# Altium footprint library resistor.PCBLIB: 427 footprints (part 13 of 27)
Each footprint in its own frame and in the unit in brackets; x right, y up, seen from the top. Pads: shape width x height; smd on the part's side, far side on the other; paste and mask are expansions set on the pad; w line width, h text height; cw(c..) or ccw(c..) is an arc to the next point about the centre after c.
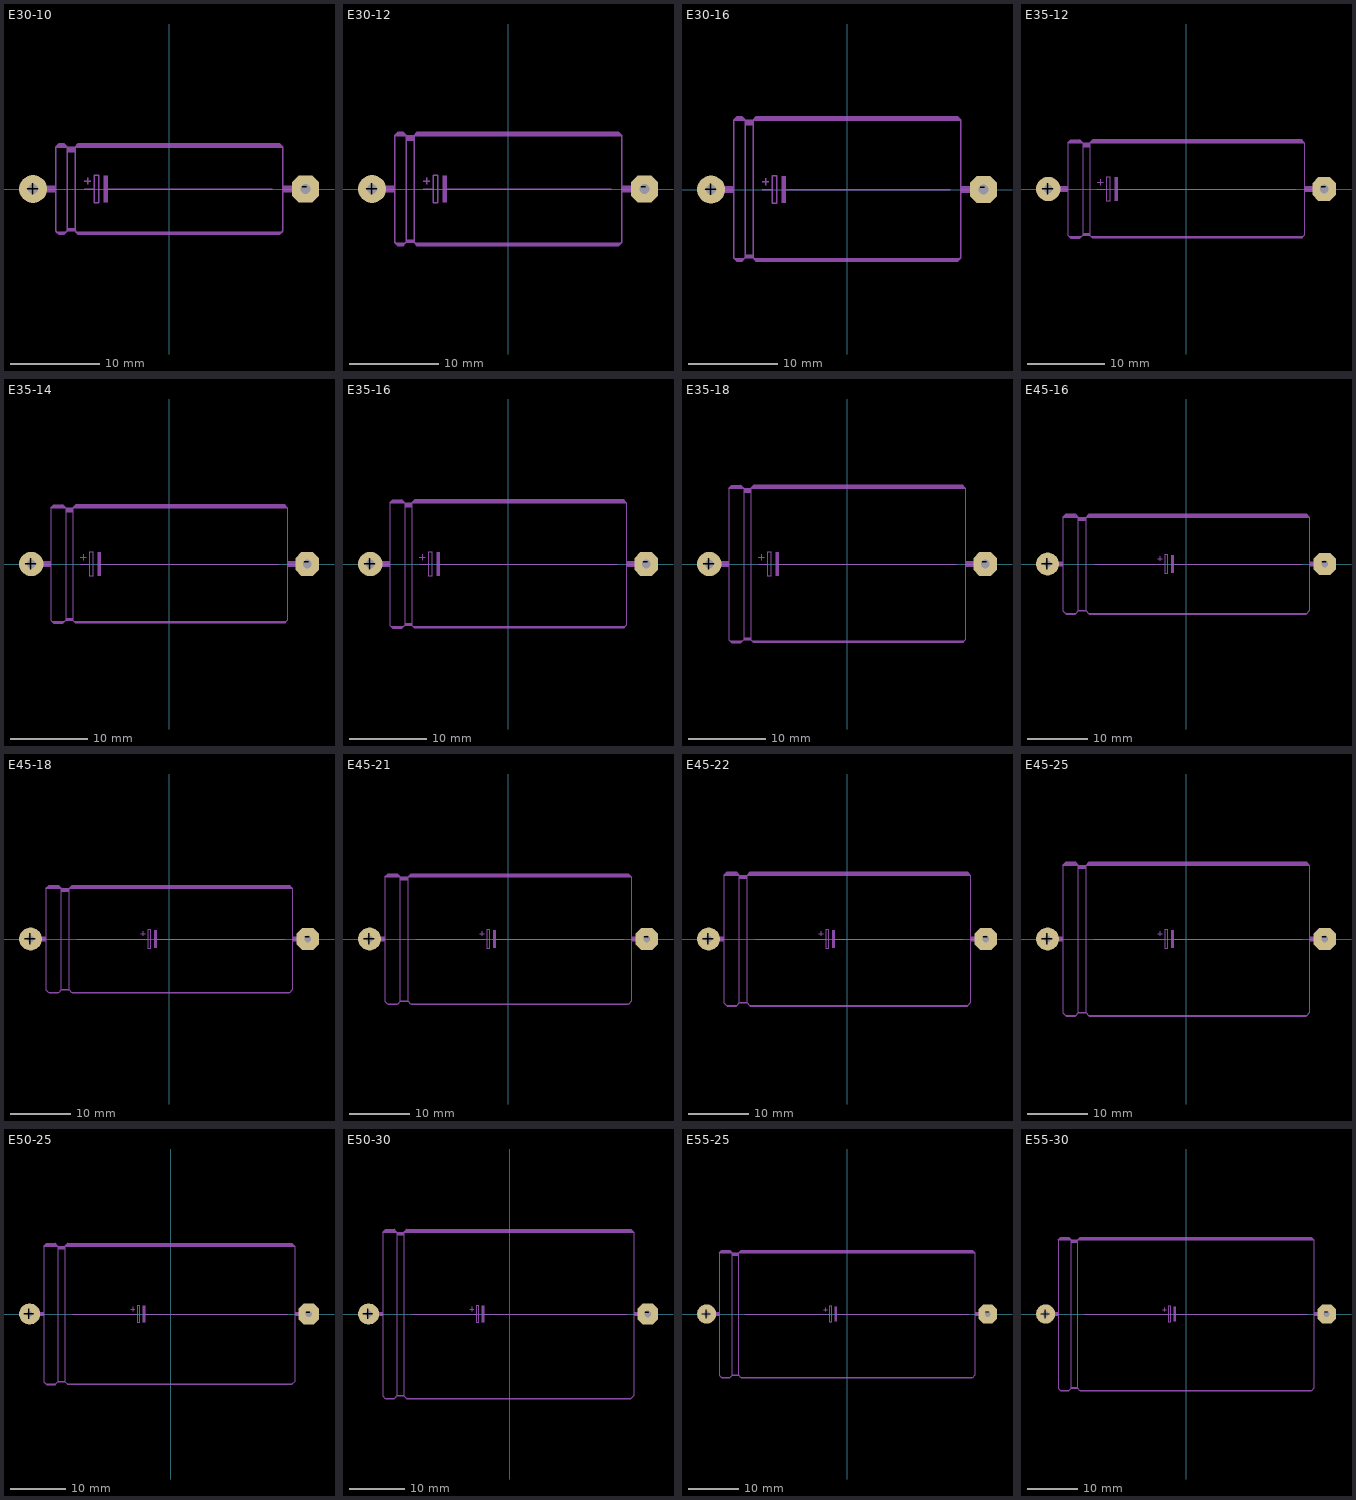
[diagram p12: the footprints below, top view; thin cyan lines are the x and y axes]

## E30-10 [mil]
pads (2):
  round 124 hole 44: +(-600,0)
  oct 120.06x120.06 hole 44: -(600,0)
Mechanical 2:
  rectangle: -290,-60 -270,60
  rectangle: -530,-15 -500,15
  rectangle: 500,-15 530,15
  lines w6: -375,0 -330,0 ; -375,35 -345,35 ; -360,20 -360,50 ; -275,0 455,0 ; -500,185 -500,-185 -495,-190 ; -500,185 -485,200 -465,200 -450,185 ; -500,185 -450,185 ; -495,-190 -455,-190 ; -495,-190 -485,-200 -465,-200 -455,-190 ; -455,-190 -450,-185 ; -450,-185 -415,-185 ; -450,-185 -450,-175 ; -450,-175 -450,165 ; -450,-175 -415,-175 ; -450,165 -450,185 ; -450,165 -415,165 ; -450,185 -415,185 ; -415,-185 -410,-190 ; -415,-185 -415,-175 ; -415,-175 -415,165 ; -415,165 -415,185 ; -415,185 -400,200 485,200 500,185 ; -415,185 500,185 ; -410,-190 -400,-200 485,-200 495,-190 ; -410,-190 495,-190 ; -330,0 -330,60 -310,60 -310,-60 -330,-60 -330,0 ; 495,-190 500,-185 500,185
  lines w12: -490,190 -460,190 ; -485,-195 -465,-195 ; -485,195 -465,195 ; -445,-180 -420,-180 ; -445,170 -420,170 ; -445,180 -420,180 ; -405,190 490,190 ; -400,-195 485,-195 ; -400,195 485,195
Mechanical 18:
  lines w30: -600,0 -530,0 ; 530,0 600,0

## E30-12 [mil]
pads (2):
  round 124 hole 44: +(-600,0)
  oct 120.06x120.06 hole 44: -(600,0)
Mechanical 2:
  rectangle: -290,-60 -270,60
  rectangle: -530,-15 -500,15
  rectangle: 500,-15 530,15
  lines w6: -375,0 -330,0 ; -375,35 -345,35 ; -360,20 -360,50 ; -275,0 455,0 ; -500,235 -500,-235 -495,-240 ; -500,235 -485,250 -465,250 -450,235 ; -500,235 -450,235 ; -495,-240 -455,-240 ; -495,-240 -485,-250 -465,-250 -455,-240 ; -455,-240 -450,-235 ; -450,-235 -415,-235 ; -450,-235 -450,-225 ; -450,-225 -450,215 ; -450,-225 -415,-225 ; -450,215 -450,235 ; -450,215 -415,215 ; -450,235 -415,235 ; -415,-235 -410,-240 ; -415,-235 -415,-225 ; -415,-225 -415,215 ; -415,215 -415,235 ; -415,235 -400,250 485,250 500,235 ; -415,235 500,235 ; -410,-240 -400,-250 485,-250 495,-240 ; -410,-240 495,-240 ; -330,0 -330,60 -310,60 -310,-60 -330,-60 -330,0 ; 495,-240 500,-235 500,235
  lines w12: -490,240 -460,240 ; -485,-245 -465,-245 ; -485,245 -465,245 ; -445,-230 -420,-230 ; -445,220 -420,220 ; -445,230 -420,230 ; -405,240 490,240 ; -400,-245 485,-245 ; -400,245 485,245
Mechanical 18:
  lines w30: -600,0 -530,0 ; 530,0 600,0

## E30-16 [mil]
pads (2):
  round 124 hole 44: +(-600,0)
  oct 120.06x120.06 hole 44: -(600,0)
Mechanical 2:
  rectangle: -290,-60 -270,60
  rectangle: -530,-15 -500,15
  rectangle: 500,-15 530,15
  lines w6: -375,0 -330,0 ; -375,35 -345,35 ; -360,20 -360,50 ; -275,0 455,0 ; -500,305 -500,-300 -495,-305 ; -500,305 -485,320 -465,320 -450,305 ; -500,305 -450,305 ; -495,-305 -455,-305 ; -495,-305 -485,-315 -465,-315 -455,-305 ; -455,-305 -450,-300 ; -450,-300 -415,-300 ; -450,-300 -450,-290 ; -450,-290 -450,285 ; -450,-290 -415,-290 ; -450,285 -450,305 ; -450,285 -415,285 ; -450,305 -415,305 ; -415,-300 -410,-305 ; -415,-300 -415,-290 ; -415,-290 -415,285 ; -415,285 -415,305 ; -415,305 -400,320 485,320 500,305 ; -415,305 500,305 ; -410,-305 -400,-315 485,-315 495,-305 ; -410,-305 495,-305 ; -330,0 -330,60 -310,60 -310,-60 -330,-60 -330,0 ; 495,-305 500,-300 500,305
  lines w12: -490,310 -460,310 ; -485,-310 -465,-310 ; -485,315 -465,315 ; -445,-295 -420,-295 ; -445,290 -420,290 ; -445,300 -420,300 ; -405,310 490,310 ; -400,-310 485,-310 ; -400,315 485,315
Mechanical 18:
  lines w30: -600,0 -530,0 ; 530,0 600,0

## E35-12 [mil]
pads (2):
  round 124 hole 44: +(-700,0)
  oct 120.06x120.06 hole 44: -(700,0)
Mechanical 2:
  rectangle: -365,-60 -345,60
  rectangle: -635,-15 -600,15
  rectangle: 600,-15 635,15
  lines w6: -450,0 -405,0 ; -450,35 -420,35 ; -435,20 -435,50 ; -350,0 555,0 ; -600,235 -600,-235 -595,-240 ; -600,235 -585,250 -540,250 -525,235 ; -600,235 -525,235 ; -595,-240 -530,-240 ; -595,-240 -585,-250 -540,-250 -530,-240 ; -530,-240 -525,-235 ; -525,-235 -490,-235 ; -525,-235 -525,-225 ; -525,-225 -525,215 ; -525,-225 -490,-225 ; -525,215 -525,235 ; -525,215 -490,215 ; -525,235 -490,235 ; -490,-235 -485,-240 ; -490,-235 -490,-225 ; -490,-225 -490,215 ; -490,215 -490,235 ; -490,235 -475,250 585,250 600,235 ; -490,235 600,235 ; -485,-240 -475,-250 585,-250 595,-240 ; -485,-240 595,-240 ; -405,0 -405,60 -385,60 -385,-60 -405,-60 -405,0 ; 595,-240 600,-235 600,235
  lines w12: -590,240 -535,240 ; -585,-245 -540,-245 ; -585,245 -540,245 ; -520,-230 -495,-230 ; -520,220 -495,220 ; -520,230 -495,230 ; -480,240 590,240 ; -475,-245 585,-245 ; -475,245 585,245
Mechanical 18:
  lines w30: -700,0 -630,0 ; 630,0 700,0

## E35-14 [mil]
pads (2):
  round 124 hole 44: +(-700,0)
  oct 120.06x120.06 hole 44: -(700,0)
Mechanical 2:
  rectangle: -365,-60 -345,60
  rectangle: -635,-15 -600,15
  rectangle: 600,-15 635,15
  lines w6: -450,0 -405,0 ; -450,35 -420,35 ; -435,20 -435,50 ; -350,0 555,0 ; -600,285 -600,-285 -595,-290 ; -600,285 -585,300 -540,300 -525,285 ; -600,285 -525,285 ; -595,-290 -530,-290 ; -595,-290 -585,-300 -540,-300 -530,-290 ; -530,-290 -525,-285 ; -525,-285 -490,-285 ; -525,-285 -525,-275 ; -525,-275 -525,265 ; -525,-275 -490,-275 ; -525,265 -525,285 ; -525,265 -490,265 ; -525,285 -490,285 ; -490,-285 -485,-290 ; -490,-285 -490,-275 ; -490,-275 -490,265 ; -490,265 -490,285 ; -490,285 -475,300 585,300 600,285 ; -490,285 600,285 ; -485,-290 -475,-300 585,-300 595,-290 ; -485,-290 595,-290 ; -405,0 -405,60 -385,60 -385,-60 -405,-60 -405,0 ; 595,-290 600,-285 600,285
  lines w12: -590,290 -535,290 ; -585,-295 -540,-295 ; -585,295 -540,295 ; -520,-280 -495,-280 ; -520,270 -495,270 ; -520,280 -495,280 ; -480,290 590,290 ; -475,-295 585,-295 ; -475,295 585,295
Mechanical 18:
  lines w30: -700,0 -630,0 ; 630,0 700,0

## E35-16 [mil]
pads (2):
  round 124 hole 44: +(-700,0)
  oct 120.06x120.06 hole 44: -(700,0)
Mechanical 2:
  rectangle: -365,-60 -345,60
  rectangle: -635,-15 -600,15
  rectangle: 600,-15 635,15
  lines w6: -450,0 -405,0 ; -450,35 -420,35 ; -435,20 -435,50 ; -350,0 555,0 ; -600,310 -600,-310 -595,-315 ; -600,310 -585,325 -540,325 -525,310 ; -600,310 -525,310 ; -595,-315 -530,-315 ; -595,-315 -585,-325 -540,-325 -530,-315 ; -530,-315 -525,-310 ; -525,-310 -490,-310 ; -525,-310 -525,-300 ; -525,-300 -525,290 ; -525,-300 -490,-300 ; -525,290 -525,310 ; -525,290 -490,290 ; -525,310 -490,310 ; -490,-310 -485,-315 ; -490,-310 -490,-300 ; -490,-300 -490,290 ; -490,290 -490,310 ; -490,310 -475,325 585,325 600,310 ; -490,310 600,310 ; -485,-315 -475,-325 585,-325 595,-315 ; -485,-315 595,-315 ; -405,0 -405,60 -385,60 -385,-60 -405,-60 -405,0 ; 595,-315 600,-310 600,310
  lines w12: -590,315 -535,315 ; -585,-320 -540,-320 ; -585,320 -540,320 ; -520,-305 -495,-305 ; -520,295 -495,295 ; -520,305 -495,305 ; -480,315 590,315 ; -475,-320 585,-320 ; -475,320 585,320
Mechanical 18:
  lines w30: -700,0 -630,0 ; 630,0 700,0

## E35-18 [mil]
pads (2):
  round 124 hole 44: +(-700,0)
  oct 120.06x120.06 hole 44: -(700,0)
Mechanical 2:
  rectangle: -365,-60 -345,60
  rectangle: -630,-15 -600,15
  rectangle: 600,-15 630,15
  lines w6: -450,0 -405,0 ; -450,35 -420,35 ; -435,20 -435,50 ; -350,0 555,0 ; -600,385 -600,-385 -595,-390 ; -600,385 -585,400 -540,400 -525,385 ; -600,385 -525,385 ; -595,-390 -530,-390 ; -595,-390 -585,-400 -540,-400 -530,-390 ; -530,-390 -525,-385 ; -525,-385 -490,-385 ; -525,-385 -525,-375 ; -525,-375 -525,365 ; -525,-375 -490,-375 ; -525,365 -525,385 ; -525,365 -490,365 ; -525,385 -490,385 ; -490,-385 -485,-390 ; -490,-385 -490,-375 ; -490,-375 -490,365 ; -490,365 -490,385 ; -490,385 -475,400 585,400 600,385 ; -490,385 600,385 ; -485,-390 -475,-400 585,-400 595,-390 ; -485,-390 595,-390 ; -405,0 -405,60 -385,60 -385,-60 -405,-60 -405,0 ; 595,-390 600,-385 600,385
  lines w12: -590,390 -535,390 ; -585,-395 -540,-395 ; -585,395 -540,395 ; -520,-380 -495,-380 ; -520,370 -495,370 ; -520,380 -495,380 ; -480,390 590,390 ; -475,-395 585,-395 ; -475,395 585,395
Mechanical 18:
  lines w30: -700,0 -630,0 ; 630,0 700,0

## E45-16 [mil]
pads (2):
  round 150 hole 44: +(-900,0)
  oct 145.24x145.24 hole 44: -(900,0)
Mechanical 2:
  rectangle: -100,-60 -80,60
  rectangle: 800,-15 820,15
  rectangle: -820,-15 -800,15
  lines w6: -720,-323 -780,-323 -780,-325 ; -600,0 -140,0 ; -185,35 -155,35 ; -170,20 -170,50 ; -85,0 750,0 ; 780,-323 -630,-323 -630,-325 ; -800,305 -780,325 -720,325 -700,305 ; -800,305 -800,-305 -785,-320 ; -800,305 -700,305 ; -785,-320 -715,-320 ; -785,-320 -780,-325 ; -780,-325 -720,-325 -715,-320 ; -715,-320 -700,-305 ; -700,-305 -650,-305 ; -700,-305 -700,-303 ; -700,-303 -650,-303 ; -700,-303 -700,-300 ; -700,-300 -650,-300 ; -700,-300 -700,285 ; -700,285 -700,305 ; -700,285 -650,285 ; -700,305 -650,305 ; -650,-305 -650,-303 ; -650,-305 -635,-320 ; -650,-303 -650,-300 ; -650,-300 -650,285 ; -650,285 -650,305 ; -650,305 -630,325 780,325 800,305 ; -650,305 800,305 ; -635,-320 -630,-325 ; -635,-320 785,-320 ; -630,-325 780,-325 785,-320 ; -140,0 -140,60 -120,60 -120,-60 -140,-60 -140,0 ; 785,-320 800,-305 800,305
  lines w12: -790,310 -710,310 ; -780,320 -720,320 ; -695,290 -655,290 ; -695,300 -655,300 ; -640,310 790,310 ; -630,320 780,320
Mechanical 18:
  lines w30: -900,0 -825,0 ; 825,0 900,0

## E45-18 [mil]
pads (2):
  round 150 hole 44: +(-900,0)
  oct 145.24x145.24 hole 44: -(900,0)
Mechanical 2:
  rectangle: -100,-60 -80,60
  rectangle: 800,-15 820,15
  rectangle: -820,-15 -800,15
  lines w6: -720,-348 -780,-348 -780,-350 ; -600,0 -140,0 ; -185,35 -155,35 ; -170,20 -170,50 ; -85,0 750,0 ; 780,-348 -630,-348 -630,-350 ; -800,330 -780,350 -720,350 -700,330 ; -800,330 -800,-330 -785,-345 ; -800,330 -700,330 ; -785,-345 -715,-345 ; -785,-345 -780,-350 ; -780,-350 -720,-350 -715,-345 ; -715,-345 -700,-330 ; -700,-330 -650,-330 ; -700,-330 -700,-328 ; -700,-328 -650,-328 ; -700,-328 -700,-325 ; -700,-325 -650,-325 ; -700,-325 -700,310 ; -700,310 -700,330 ; -700,310 -650,310 ; -700,330 -650,330 ; -650,-330 -650,-328 ; -650,-330 -635,-345 ; -650,-328 -650,-325 ; -650,-325 -650,310 ; -650,310 -650,330 ; -650,330 -630,350 780,350 800,330 ; -650,330 800,330 ; -635,-345 -630,-350 ; -635,-345 785,-345 ; -630,-350 780,-350 785,-345 ; -140,0 -140,60 -120,60 -120,-60 -140,-60 -140,0 ; 785,-345 800,-330 800,330
  lines w12: -790,335 -710,335 ; -780,345 -720,345 ; -695,315 -655,315 ; -695,325 -655,325 ; -640,335 790,335 ; -630,345 780,345
Mechanical 18:
  lines w30: -900,0 -825,0 ; 825,0 900,0

## E45-21 [mil]
pads (2):
  round 150 hole 44: +(-900,0)
  oct 145.24x145.24 hole 44: -(900,0)
Mechanical 2:
  rectangle: -100,-60 -80,60
  rectangle: 800,-15 820,15
  rectangle: -820,-15 -800,15
  lines w6: -720,-423 -780,-423 -780,-425 ; -600,0 -140,0 ; -185,35 -155,35 ; -170,20 -170,50 ; -85,0 750,0 ; 780,-423 -630,-423 -630,-425 ; -800,405 -780,425 -720,425 -700,405 ; -800,405 -800,-405 -785,-420 ; -800,405 -700,405 ; -785,-420 -715,-420 ; -785,-420 -780,-425 ; -780,-425 -720,-425 -715,-420 ; -715,-420 -700,-405 ; -700,-405 -650,-405 ; -700,-405 -700,-403 ; -700,-403 -650,-403 ; -700,-403 -700,-400 ; -700,-400 -650,-400 ; -700,-400 -700,385 ; -700,385 -700,405 ; -700,385 -650,385 ; -700,405 -650,405 ; -650,-405 -650,-403 ; -650,-405 -635,-420 ; -650,-403 -650,-400 ; -650,-400 -650,385 ; -650,385 -650,405 ; -650,405 -630,425 780,425 800,405 ; -650,405 800,405 ; -635,-420 -630,-425 ; -635,-420 785,-420 ; -630,-425 780,-425 785,-420 ; -140,0 -140,60 -120,60 -120,-60 -140,-60 -140,0 ; 785,-420 800,-405 800,405
  lines w12: -790,410 -710,410 ; -780,420 -720,420 ; -695,390 -655,390 ; -695,400 -655,400 ; -640,410 790,410 ; -630,420 780,420
Mechanical 18:
  lines w30: -900,0 -825,0 ; 825,0 900,0

## E45-22 [mil]
pads (2):
  round 150 hole 44: +(-900,0)
  oct 145.24x145.24 hole 44: -(900,0)
Mechanical 2:
  rectangle: -100,-60 -80,60
  rectangle: 800,-15 820,15
  rectangle: -820,-15 -800,15
  lines w6: -720,-433 -780,-433 -780,-435 ; -600,0 -140,0 ; -185,35 -155,35 ; -170,20 -170,50 ; -85,0 750,0 ; 780,-433 -630,-433 -630,-435 ; -800,415 -780,435 -720,435 -700,415 ; -800,415 -800,-415 -785,-430 ; -800,415 -700,415 ; -785,-430 -715,-430 ; -785,-430 -780,-435 ; -780,-435 -720,-435 -715,-430 ; -715,-430 -700,-415 ; -700,-415 -650,-415 ; -700,-415 -700,-413 ; -700,-413 -650,-413 ; -700,-413 -700,-410 ; -700,-410 -650,-410 ; -700,-410 -700,395 ; -700,395 -700,415 ; -700,395 -650,395 ; -700,415 -650,415 ; -650,-415 -650,-413 ; -650,-415 -635,-430 ; -650,-413 -650,-410 ; -650,-410 -650,395 ; -650,395 -650,415 ; -650,415 -630,435 780,435 800,415 ; -650,415 800,415 ; -635,-430 -630,-435 ; -635,-430 785,-430 ; -630,-435 780,-435 785,-430 ; -140,0 -140,60 -120,60 -120,-60 -140,-60 -140,0 ; 785,-430 800,-415 800,415
  lines w12: -790,420 -710,420 ; -780,430 -720,430 ; -695,400 -655,400 ; -695,410 -655,410 ; -640,420 790,420 ; -630,430 780,430
Mechanical 18:
  lines w30: -900,0 -825,0 ; 825,0 900,0

## E45-25 [mil]
pads (2):
  round 150 hole 44: +(-900,0)
  oct 145.24x145.24 hole 44: -(900,0)
Mechanical 2:
  rectangle: -100,-60 -80,60
  rectangle: 800,-15 820,15
  rectangle: -820,-15 -800,15
  lines w6: -720,-498 -780,-498 -780,-500 ; -600,0 -140,0 ; -185,35 -155,35 ; -170,20 -170,50 ; -85,0 750,0 ; 780,-498 -630,-498 -630,-500 ; -800,480 -780,500 -720,500 -700,480 ; -800,480 -800,-480 -785,-495 ; -800,480 -700,480 ; -785,-495 -715,-495 ; -785,-495 -780,-500 ; -780,-500 -720,-500 -715,-495 ; -715,-495 -700,-480 ; -700,-480 -650,-480 ; -700,-480 -700,-478 ; -700,-478 -650,-478 ; -700,-478 -700,-475 ; -700,-475 -650,-475 ; -700,-475 -700,460 ; -700,460 -700,480 ; -700,460 -650,460 ; -700,480 -650,480 ; -650,-480 -650,-478 ; -650,-480 -635,-495 ; -650,-478 -650,-475 ; -650,-475 -650,460 ; -650,460 -650,480 ; -650,480 -630,500 780,500 800,480 ; -650,480 800,480 ; -635,-495 -630,-500 ; -635,-495 785,-495 ; -630,-500 780,-500 785,-495 ; -140,0 -140,60 -120,60 -120,-60 -140,-60 -140,0 ; 785,-495 800,-480 800,480
  lines w12: -790,485 -710,485 ; -780,495 -720,495 ; -695,465 -655,465 ; -695,475 -655,475 ; -640,485 790,485 ; -630,495 780,495
Mechanical 18:
  lines w30: -900,0 -825,0 ; 825,0 900,0

## E50-25 [mil]
pads (2):
  round 150 hole 44: +(-1000,0)
  oct 145.24x145.24 hole 44: -(975,0)
Mechanical 2:
  rectangle: -200,-60 -180,60
  rectangle: 875,-15 895,15
  rectangle: -920,-15 -900,15
  lines w6: -820,-498 -880,-498 -880,-500 ; -700,0 -240,0 ; -285,35 -255,35 ; -270,20 -270,50 ; -185,0 825,0 ; 855,-498 -730,-498 -730,-500 ; -900,480 -880,500 -820,500 -800,480 ; -900,480 -900,-480 -885,-495 ; -900,480 -800,480 ; -885,-495 -815,-495 ; -885,-495 -880,-500 ; -880,-500 -820,-500 -815,-495 ; -815,-495 -800,-480 ; -800,-480 -750,-480 ; -800,-480 -800,-478 ; -800,-478 -800,-475 ; -800,-478 -750,-478 ; -800,-475 -800,460 ; -800,-475 -750,-475 ; -800,460 -800,480 ; -800,460 -750,460 ; -800,480 -750,480 ; -750,-480 -735,-495 ; -750,-480 -750,-478 ; -750,-478 -750,-475 ; -750,-475 -750,460 ; -750,460 -750,480 ; -750,480 -730,500 855,500 875,480 ; -750,480 875,480 ; -735,-495 860,-495 ; -735,-495 -730,-500 ; -730,-500 855,-500 860,-495 ; -240,0 -240,60 -220,60 -220,-60 -240,-60 -240,0 ; 860,-495 875,-480 875,480
  lines w12: -890,485 -885,485 ; -885,490 -885,485 ; -880,495 -820,495 ; -815,490 -815,485 ; -810,485 -815,485 ; -795,465 -755,465 ; -795,475 -755,475 ; -740,485 -735,485 ; -735,490 -735,485 ; -730,495 855,495 ; 865,485 -735,485 ; -885,485 -815,485
Mechanical 18:
  lines w30: -1000,0 -925,0 ; 900,0 975,0

## E50-30 [mil]
pads (2):
  round 150 hole 47: +(-1000,0)
  oct 145.24x145.24 hole 47: -(975,0)
Mechanical 2:
  rectangle: -200,-60 -180,60
  rectangle: 875,-15 895,15
  rectangle: -920,-15 -900,15
  lines w6: -820,-598 -880,-598 -880,-600 ; -700,0 -240,0 ; -285,35 -255,35 ; -270,20 -270,50 ; -185,0 825,0 ; 855,-598 -730,-598 -730,-600 ; -900,580 -880,600 -820,600 -800,580 ; -900,580 -900,-580 -885,-595 ; -900,580 -800,580 ; -885,-595 -815,-595 ; -885,-595 -880,-600 ; -880,-600 -820,-600 -815,-595 ; -815,-595 -800,-580 ; -800,-580 -750,-580 ; -800,-580 -800,-578 ; -800,-578 -800,-575 ; -800,-578 -750,-578 ; -800,-575 -800,560 ; -800,-575 -750,-575 ; -800,560 -800,580 ; -800,560 -750,560 ; -800,580 -750,580 ; -750,-580 -735,-595 ; -750,-580 -750,-578 ; -750,-578 -750,-575 ; -750,-575 -750,560 ; -750,560 -750,580 ; -750,580 -730,600 855,600 875,580 ; -750,580 875,580 ; -735,-595 860,-595 ; -735,-595 -730,-600 ; -730,-600 855,-600 860,-595 ; -240,0 -240,60 -220,60 -220,-60 -240,-60 -240,0 ; 860,-595 875,-580 875,580
  lines w12: -890,585 -885,585 ; -885,590 -885,585 ; -880,595 -820,595 ; -815,590 -815,585 ; -810,585 -815,585 ; -795,565 -755,565 ; -795,575 -755,575 ; -740,585 -735,585 ; -735,590 -735,585 ; -730,595 855,595 ; 865,585 -735,585 ; -885,585 -815,585
Mechanical 18:
  lines w30: -1000,0 -925,0 ; 900,0 975,0

## E55-25 [mil]
pads (2):
  round 150 hole 44: +(-1100,0)
  oct 145.24x145.24 hole 44: -(1100,0)
Mechanical 2:
  rectangle: -100,-60 -80,60
  rectangle: 1000,-15 1020,15
  rectangle: -1020,-15 -1000,15
  lines w6: -920,-498 -980,-498 -980,-500 ; -800,0 -140,0 ; -185,35 -155,35 ; -170,20 -170,50 ; -85,0 950,0 ; 980,-498 -830,-498 -830,-500 ; -1000,480 -980,500 -920,500 -900,480 ; -1000,480 -1000,-480 -985,-495 ; -1000,480 -900,480 ; -985,-495 -915,-495 ; -985,-495 -980,-500 ; -980,-500 -920,-500 -915,-495 ; -915,-495 -900,-480 ; -900,-480 -850,-480 ; -900,-480 -900,-478 ; -900,-478 -850,-478 ; -900,-478 -900,-475 ; -900,-475 -850,-475 ; -900,-475 -900,460 ; -900,460 -900,480 ; -900,460 -850,460 ; -900,480 -850,480 ; -850,-480 -850,-478 ; -850,-480 -835,-495 ; -850,-478 -850,-475 ; -850,-475 -850,460 ; -850,460 -850,480 ; -850,480 -830,500 980,500 1000,480 ; -850,480 1000,480 ; -835,-495 -830,-500 ; -835,-495 985,-495 ; -830,-500 980,-500 985,-495 ; -140,0 -140,60 -120,60 -120,-60 -140,-60 -140,0 ; 985,-495 1000,-480 1000,480
  lines w12: -990,485 -910,485 ; -980,495 -920,495 ; -895,465 -855,465 ; -895,475 -855,475 ; -840,485 990,485 ; -830,495 980,495
Mechanical 18:
  lines w30: -1100,0 -1025,0 ; 1025,0 1100,0

## E55-30 [mil]
pads (2):
  round 150 hole 47: +(-1100,0)
  oct 145.24x145.24 hole 47: -(1100,0)
Mechanical 2:
  rectangle: -100,-60 -80,60
  rectangle: 1000,-15 1020,15
  rectangle: -1020,-15 -1000,15
  lines w6: -920,-598 -980,-598 -980,-600 ; -800,0 -140,0 ; -185,35 -155,35 ; -170,20 -170,50 ; -85,0 950,0 ; 980,-598 -830,-598 -830,-600 ; -1000,580 -980,600 -920,600 -900,580 ; -1000,580 -1000,-580 -985,-595 ; -1000,580 -900,580 ; -985,-595 -915,-595 ; -985,-595 -980,-600 ; -980,-600 -920,-600 -915,-595 ; -915,-595 -900,-580 ; -900,-580 -850,-580 ; -900,-580 -900,-578 ; -900,-578 -850,-578 ; -900,-578 -900,-575 ; -900,-575 -850,-575 ; -900,-575 -900,560 ; -900,560 -900,580 ; -900,560 -850,560 ; -900,580 -850,580 ; -850,-580 -850,-578 ; -850,-580 -835,-595 ; -850,-578 -850,-575 ; -850,-575 -850,560 ; -850,560 -850,580 ; -850,580 -830,600 980,600 1000,580 ; -850,580 1000,580 ; -835,-595 -830,-600 ; -835,-595 985,-595 ; -830,-600 980,-600 985,-595 ; -140,0 -140,60 -120,60 -120,-60 -140,-60 -140,0 ; 985,-595 1000,-580 1000,580
  lines w12: -990,585 -910,585 ; -980,595 -920,595 ; -895,565 -855,565 ; -895,575 -855,575 ; -840,585 990,585 ; -830,595 980,595
Mechanical 18:
  lines w30: -1100,0 -1025,0 ; 1025,0 1100,0